# EAGLE library part GY-49 (library GY-49)
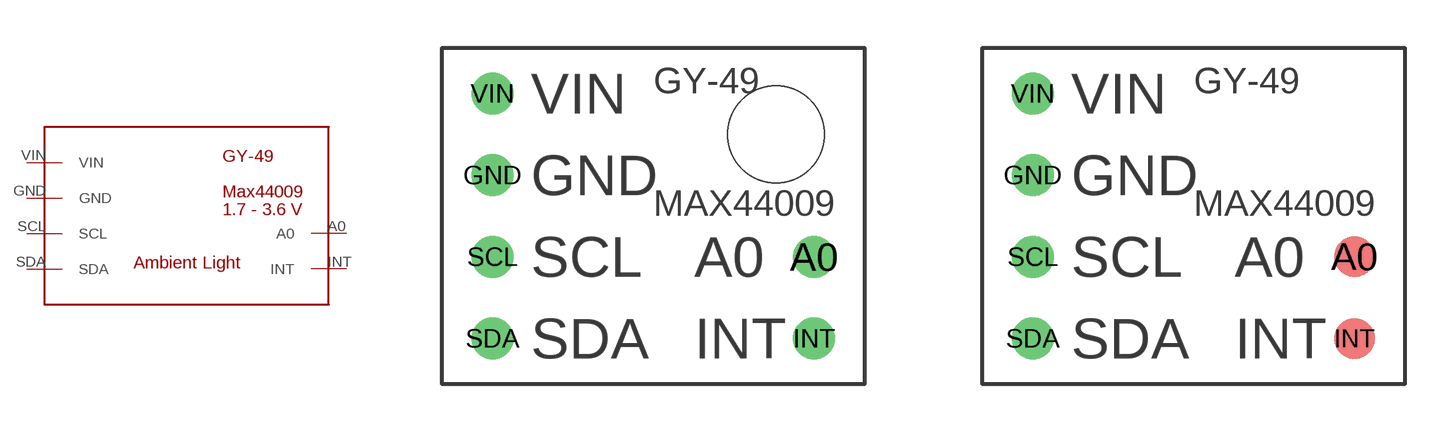
[diagram p0: symbol with the pads of GY-49; footprints GY-49, GY-49-SURF]

Designator prefix -

## GY-49  [GY-49]
A0  A0
GND  GND
INT  INT
SCL  SCL
SDA  SDA
VIN  VIN

## GY-49G-49-SURF  [GY-49-SURF]
Pads as for GY-49

## Footprint GY-49 (pad centres in mm)
drill 0.8: A0 5,-1.27; GND -5,1.27; INT 5,-3.81; SCL -5,-1.27; SDA -5,-3.81; VIN -5,3.81
hole 3 at 3.81,2.54

## Footprint GY-49-SURF (pad centres in mm)
smd 1.27 x 1.27: A0 5,-1.27; INT 5,-3.81
drill 0.8: GND -5,1.27; SCL -5,-1.27; SDA -5,-3.81; VIN -5,3.81